# Altium integrated library A-1JB.IntLib: 1 symbol
Pins are listed as number, name and electrical type; pins without a type are passive.

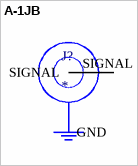
[diagram p0: symbol A-1JB]

## A-1JB
designator J?
AMC Straight PCB Jack, Surface Mount, 2500 pc Reel, 50 Ohm; MP: A-1JB; Package: None; Price: None; Availability: Unavailable; Value: *
footprint AMPHENOL_A-1JB
pins: GND1 GND, GND2 GND, OPTIONAL_GND GND, SIGNAL